# Altium footprint library ABS07-120-32.768.PcbLib: 1 footprints
Each footprint in its own frame and in the unit in brackets; x right, y up, seen from the top. Pads: shape width x height; smd on the part's side, far side on the other; paste and mask are expansions set on the pad; w line width, h text height; cw(c..) or ccw(c..) is an arc to the next point about the centre after c.
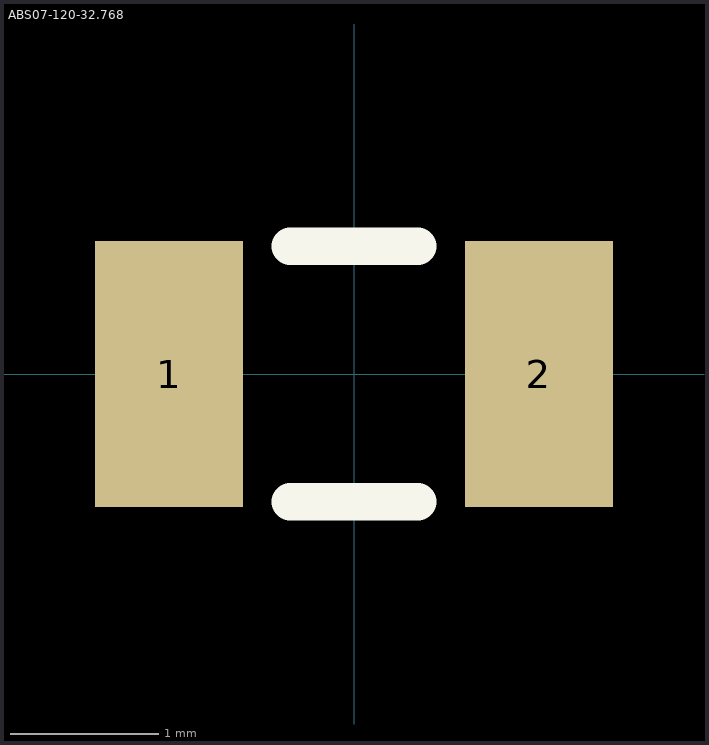
[diagram p0: the footprint, top view; thin cyan lines are the x and y axes]

## ABS07-120-32.768 [mm] "32.768 kHz crystal"
pads (2):
  rect 1x1.8 smd: 1(-1.25,0) 2(1.25,0)
Top Overlay:
  lines w0.254: -0.432,-0.864 0.432,-0.864 ; -0.432,0.864 0.432,0.864
3D body "ABS07-120 v1.step": height 0.89, standoff 0, extent -1.603,-0.752 1.603,0.752